# EAGLE library part MC6-G (library con-phoenix-381_l)
Mini-Combicon 3.81mm horizontal 6-polig (mit Gegenstecker)
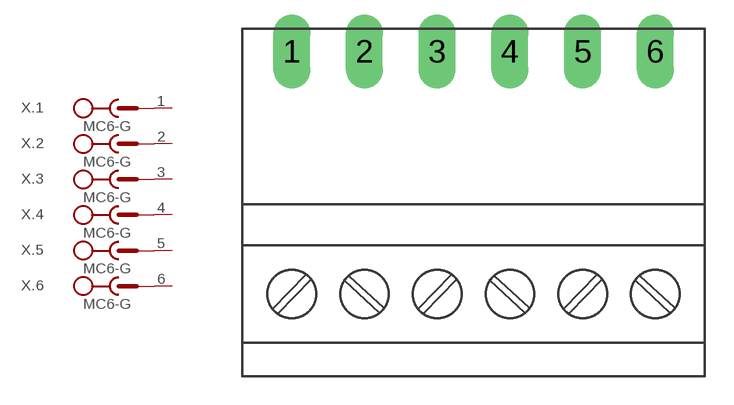
[diagram p13: symbol with the pads of MC6-G; footprint MC6-G]

Designator prefix X; gates .1=SK+V .2=SK+V .3=SK+V .4=SK+V .5=SK+V .6=SK+V

## MC6-G  [MC6-G]
1  .1:SK  pas
2  .2:SK  pas
3  .3:SK  pas
4  .4:SK  pas
5  .5:SK  pas
6  .6:SK  pas

## Footprint MC6-G (pad centres in mm)
Mini-Combicon 3.81mm horizontal 6-polig (mit Gegenstecker)
drill 1.3 long: 1 -9.525,0; 2 -5.715,0; 3 -1.905,0; 4 1.905,0; 5 5.715,0; 6 9.525,0